# EAGLE library part FTSH2X5 (library connector)
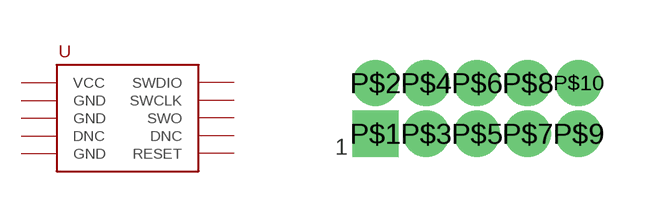
[diagram p0: symbol with the pads of HEADER2X5; footprint HEADER2X5]

Designator prefix -

## FTSH2X5  [HEADER2X5]
P$1  VCC
P$2  SWDIO
P$3  GND
P$4  SWCLK
P$5  GND
P$6  SWO
P$7  DNC
P$8  DNC
P$9  GND
P$10  RESET

## Footprint HEADER2X5 (pad centres in mm)
drill 0.65 square: P$1 -2.54,-0.635
drill 0.65: P$2 -2.54,0.635; P$3 -1.27,-0.635; P$4 -1.27,0.635; P$5 0,-0.635; P$6 0,0.635; P$7 1.27,-0.635; P$8 1.27,0.635; P$9 2.54,-0.635; P$10 2.54,0.635